# Altium schematic symbol library RE_TRIM.SchLib: 1 symbol
Pins are listed as number, name and electrical type; pins without a type are passive.

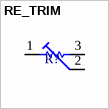
[diagram p0: symbol RE_TRIM]

## RE_TRIM
designator R?
pins: 1 CCW, 2 TAP, 3 CW
1 alternate drawing of the same symbol